# EAGLE library part AL440B (library SHC)
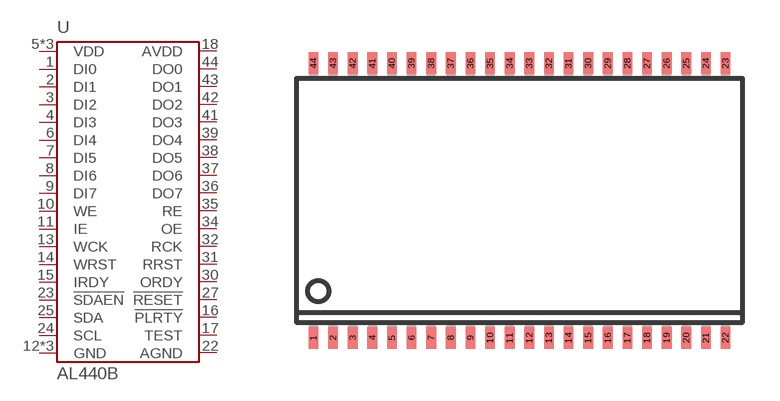
[diagram p38: symbol with the pads of TSOP-44; footprint TSOP-44]

Designator prefix -

## AL440B  [TSOP-44]
1  DI0
2  DI1
3  DI2
4  DI3
5  VDD
6  DI4
7  DI5
8  DI6
9  DI7
10  WE
11  IE
12  GND
13  WCK
14  WRST
15  IRDY
16  !PLRTY
17  TEST
18  AVDD
22  AGND
23  !SDAEN
24  SCL
25  SDA
26  GND
27  !RESET
29  VDD
30  ORDY
31  RRST
32  RCK
33  GND
34  OE
35  RE
36  DO7
37  DO6
38  DO5
39  DO4
40  VDD
41  DO3
42  DO2
43  DO1
44  DO0

## Footprint TSOP-44 (pad centres in mm)
smd 0.4 x 0.9: 1 -8.4,-5.6; 2 -7.6,-5.6; 3 -6.8,-5.6; 4 -6,-5.6; 5 -5.2,-5.6; 6 -4.4,-5.6; 7 -3.6,-5.6; 8 -2.8,-5.6; 9 -2,-5.6; 10 -1.2,-5.6; 11 -0.4,-5.6; 12 0.4,-5.6; 13 1.2,-5.6; 14 2,-5.6; 15 2.8,-5.6; 16 3.6,-5.6; 17 4.4,-5.6; 18 5.2,-5.6; 19 6,-5.6; 20 6.8,-5.6; 21 7.6,-5.6; 22 8.4,-5.6; 23 8.4,5.6; 24 7.6,5.6; 25 6.8,5.6; 26 6,5.6; 27 5.2,5.6; 28 4.4,5.6; 29 3.6,5.6; 30 2.8,5.6; 31 2,5.6; 32 1.2,5.6; 33 0.4,5.6; 34 -0.4,5.6; 35 -1.2,5.6; 36 -2,5.6; 37 -2.8,5.6; 38 -3.6,5.6; 39 -4.4,5.6; 40 -5.2,5.6; 41 -6,5.6; 42 -6.8,5.6; 43 -7.6,5.6; 44 -8.4,5.6